# Altium footprint library pedals-switches.PCBLIB: 26 footprints (part 2 of 2)
Each footprint in its own frame and in the unit in brackets; x right, y up, seen from the top. Pads: shape width x height; smd on the part's side, far side on the other; paste and mask are expansions set on the pad; w line width, h text height; cw(c..) or ccw(c..) is an arc to the next point about the centre after c.
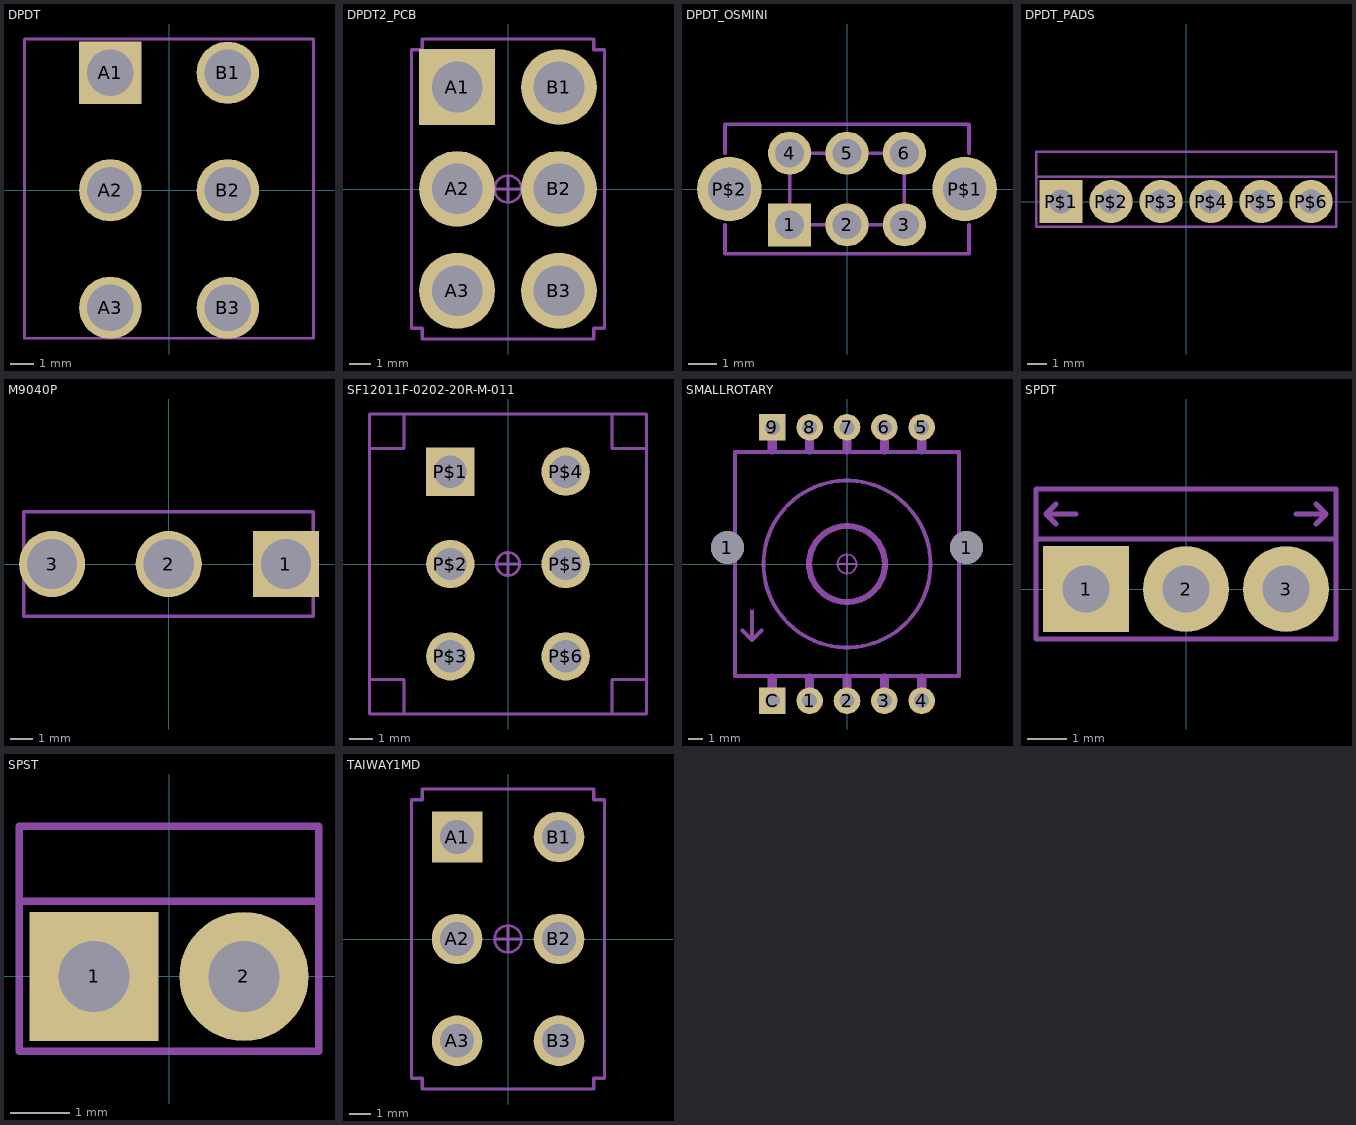
[diagram p1: the footprints below, top view; thin cyan lines are the x and y axes]

## DPDT [mm]
pads (6):
  rect 2.7x2.7 hole 2: A1(-2.54,5.08)
  round 2.7 hole 2: A2(-2.54,0) A3(-2.54,-5.08) B1(2.54,5.08) B2(2.54,0) B3(2.54,-5.08)
Mechanical 2:
  lines w0.127: -6.256,-6.396 -6.256,6.54 6.245,6.54 6.245,-6.396 -6.256,-6.396

## DPDT2_PCB [mil]
pads (6):
  rect 141.74x141.74 hole 94.49: A1(-95,190.32)
  round 141.74 hole 94.49: A2(-95,0.16) A3(-95,-190) B1(95.16,190.32) B2(95.16,0.16) B3(95.16,-190)
Mechanical 2:
  lines w6: -180,-260 -160,-260 -160,-280 160,-280 160,-260 180,-260 180,260 160,260 160,280 -160,280 -160,260 -180,260 -180,-260
Mechanical 3:
  circle w5: c0,0 r25
  lines w5: -25,0 25,0 ; 0,-25 0,25
  lines w6: -180,-260 -160,-260 -160,-280 160,-280 160,-260 180,-260 180,260 160,260 160,280 -160,280 -160,260 -180,260 -180,-260

## DPDT_OSMINI [mm]
pads (8):
  rect 1.5x1.5 hole 1: 1(-2,-1.25)
  round 1.5 hole 1: 2(0,-1.25) 3(2,-1.25) 4(-2,1.25) 5(0,1.25) 6(2,1.25)
  round 2.25 hole 1.5: P$1(4.1,0) P$2(-4.1,0)
Mechanical 2:
  lines w0.127: -4.25,-1.25 -4.25,-2.25 -3,-2.25 3,-2.25 4.25,-2.25 4.25,-1.25 ; -4.25,1.25 -4.25,2.25 -3,2.25 3,2.25 4.25,2.25 4.25,1.25 ; -2,-0.5 -2,0.5 ; -1.25,-1.25 -0.75,-1.25 ; -1.25,1.25 -0.75,1.25 ; 0.75,-1.25 1.25,-1.25 ; 0.75,1.25 1.25,1.25 ; 2,-0.5 2,0.5

## DPDT_PADS [mil]
pads (6):
  rect 86x86 hole 47.24: P$1(-250,0)
  round 86 hole 47.24: P$2(-150,0) P$3(-50,0) P$4(50,0) P$5(150,0) P$6(250,0)
Mechanical 2:
  lines w5: -300,50 300,50 ; -300,50 -300,-50 300,-50 300,50 ; -300,50 -300,100 300,100 300,50
Mechanical 3:
  lines w5: -300,50 300,50 ; -300,50 -300,-50 300,-50 300,50 ; -300,50 -300,100 300,100 300,50

## M9040P [mil]
pads (3):
  rect 114.17x114.17 hole 86.61: 1(202.5,0)
  round 114.17 hole 86.61: 2(0,0) 3(-201.5,0)
Mechanical 2:
  lines w6: -250,-90 250,-90 250,90 -250,90 -250,-90
Mechanical 3:
  lines w6: -250,-90 250,-90 ; -250,-89.75 -250,90 250,90 250,-89

## SF12011F-0202-20R-M-011 [mm]
pads (6):
  rect 2.1x2.1 hole 1.4: P$1(-2.5,4)
  round 2.1 hole 1.4: P$2(-2.5,0) P$3(-2.5,-4) P$4(2.5,4) P$5(2.5,0) P$6(2.5,-4)
Mechanical 2:
  circle w0.127: c0,0 r0.5
  lines w0.127: -0.5,0 0.5,0 ; 0,-0.5 0,0.5 ; -6,-5 -6,-6.5 -4.5,-6.5 ; -6,-5 -6,5 ; -6,-5 -4.5,-5 -4.5,-6.5 ; -6,5 -6,6.5 -4.5,6.5 ; -6,5 -4.5,5 -4.5,6.5 ; -4.5,-6.5 4.5,-6.5 ; -4.5,6.5 4.5,6.5 ; 4.5,-6.5 6,-6.5 6,-5 ; 4.5,-6.5 4.5,-5 6,-5 ; 4.5,6.5 6,6.5 6,5 ; 4.5,6.5 4.5,5 6,5 ; 6,-5 6,5
Mechanical 3:
  circle w0.127: c0,0 r0.5
  lines w0.127: -0.5,0 0.5,0 ; 0,-0.5 0,0.5 ; -6,-5 -6,5 ; -6,-5 -6,-6.5 -4.5,-6.5 ; -6,-5 -4.5,-5 -4.5,-6.5 ; -6,5 -6,6.5 -4.5,6.5 ; -6,5 -4.5,5 -4.5,6.5 ; -4.5,-6.5 4.5,-6.5 ; -4.5,6.5 4.5,6.5 ; 4.5,-6.5 6,-6.5 6,-5 ; 4.5,-6.5 4.5,-5 6,-5 ; 4.5,6.5 6,6.5 6,5 ; 4.5,6.5 4.5,5 6,5 ; 6,-5 6,5

## SMALLROTARY [mil]
pads (12):
  round 86.61 hole 86.61: 1(-314.96,43.31) 1(314.96,43.31)
  round 70 hole 39.37: 1(-98.43,-360.24) 2(0,-360.24) 3(98.43,-360.24) 4(196.85,-360.24) 5(196.85,360.24) 6(98.43,360.24) 7(0,360.24) 8(-98.43,360.24)
  rect 70x70 hole 39.37: 9(-196.85,360.24) C(-196.85,-360.24)
Mechanical 3:
  circle w10: c0,0 r220.08
  circle w16: c0,0 r100
  circle w5: c0,0 r25
  lines w5: -25,0 25,0 ; 0,-25 0,25
  lines w10: -275,-175 -250,-200 ; -250,-125 -250,-200 ; -225,-175 -250,-200 ; -295.28,-295.28 295.28,-295.28 295.28,295.28 -295.28,295.28 -295.28,-295.28
  lines w24: -196.85,-350 -196.85,-300 ; -196.85,300 -196.85,350 ; -98.43,-350 -98.43,-300 ; -98.43,300 -98.43,350 ; 0,-350 0,-300 ; 0,300 0,350 ; 98.43,-350 98.43,-300 ; 98.43,300 98.43,350 ; 196.85,-350 196.85,-300 ; 196.85,300 196.85,350

## SPDT [mil]
pads (3):
  rect 86x86 hole 47.24: 1(-100,0)
  round 86 hole 47.24: 2(0,0) 3(100,0)
Mechanical 2:
  lines w5: -150,50 150,50 ; -130,65 -140,75 ; -130,85 -140,75 ; -110,75 -140,75 ; 110,75 140,75 ; 130,65 140,75 ; 130,85 140,75 ; -150,-50 150,-50 150,100 -150,100 -150,-50
Mechanical 3:
  lines w5: -150,50 150,50 ; -15,0 15,0 ; 0,-15 0,15 ; -150,-50 -150,100 150,100 150,-50 -150,-50

## SPST [mil]
pads (2):
  rect 86x86 hole 47.24: 1(-50,0)
  round 86 hole 47.24: 2(50,0)
Mechanical 2:
  lines w5: -100,50 -100,-50 100,-50 100,50 ; -100,50 100,50 ; -100,50 -100,100 100,100 100,50
Mechanical 3:
  lines w5: -100,50 -100,-50 100,-50 100,50 ; -100,50 100,50 ; -100,50 -100,100 100,100 100,50

## TAIWAY1MD [mil]
pads (6):
  rect 94.48x94.48 hole 62.99: A1(-95,190.32)
  round 94.48 hole 62.99: A2(-95,0.16) A3(-95,-190) B1(95.16,190.32) B2(95.16,0.16) B3(95.16,-190)
Mechanical 2:
  lines w6: -180,-260 -160,-260 -160,-280 160,-280 160,-260 180,-260 180,260 160,260 160,280 -160,280 -160,260 -180,260 -180,-260
Mechanical 3:
  circle w5: c0,0 r25
  lines w5: -25,0 25,0 ; 0,-25 0,25
  lines w6: -180,-260 -160,-260 -160,-280 160,-280 160,-260 180,-260 180,260 160,260 160,280 -160,280 -160,260 -180,260 -180,-260